# EAGLE library part CD74HC4051NSR (library Cominer-CD74HC4051NSR)
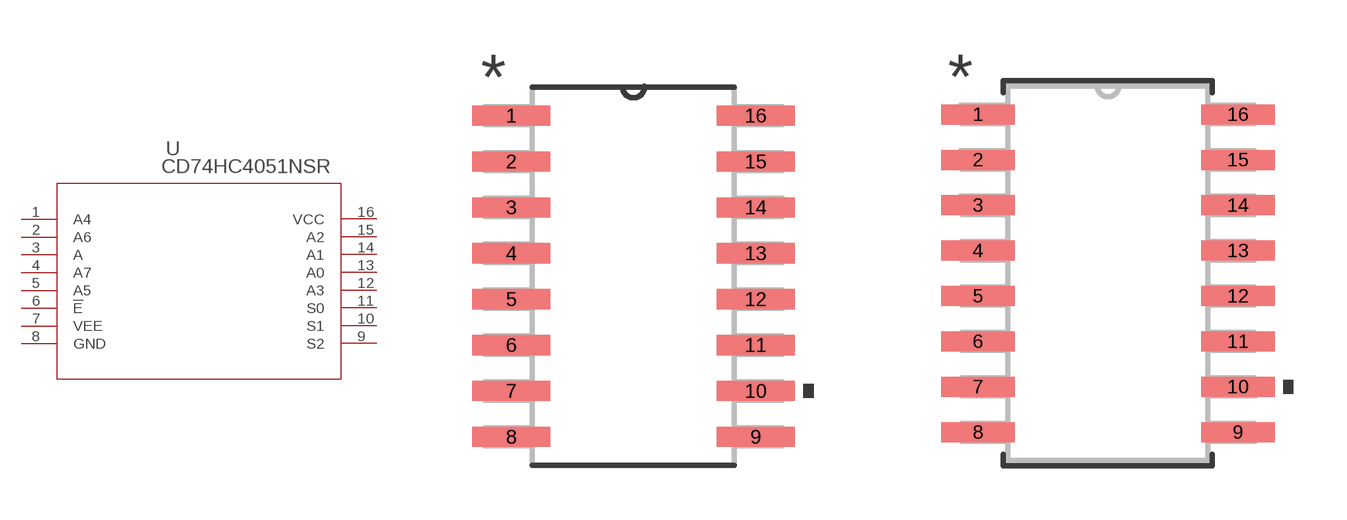
[diagram p0: symbol with the pads of NS16; footprints NS16, NS16-M]

Designator prefix U

## CD74HC4051NSR (COPYRIGHT: Copyright (C) 2022 Ultra Librarian. All rights reserved.; DIGI-KEY_PART_NUMBER_1: 296-28697-1-ND; DIGI-KEY_PART_NUMBER_2: 296-28697-2-ND; DIGI-KEY_PART_NUMBER_3: 296-28697-6-ND; DIGI-KEY_PART_NUMBER_4: 2156-CD74HC4051NSR-ND; MANUFACTURER_PART_NUMBER: CD74HC4051NSR; MFR_NAME: Texas Instruments)  [NS16]
1  A4
2  A6
3  A
4  A7
5  A5
6  !E  in
7  VEE  pwr
8  GND  pwr
9  S2
10  S1
11  S0
12  A3
13  A0
14  A1
15  A2
16  VCC  pwr

## CD74HC4051NSRNS16-M (COPYRIGHT: Copyright (C) 2022 Ultra Librarian. All rights reserved.; DIGI-KEY_PART_NUMBER_1: 296-28697-1-ND; DIGI-KEY_PART_NUMBER_2: 296-28697-2-ND; DIGI-KEY_PART_NUMBER_3: 296-28697-6-ND; DIGI-KEY_PART_NUMBER_4: 2156-CD74HC4051NSR-ND; MANUFACTURER_PART_NUMBER: CD74HC4051NSR; MFR_NAME: Texas Instruments)  [NS16-M]
Pads as for NS16

## CD74HC4051NSRNS16-L (COPYRIGHT: Copyright (C) 2022 Ultra Librarian. All rights reserved.; DIGI-KEY_PART_NUMBER_1: 296-28697-1-ND; DIGI-KEY_PART_NUMBER_2: 296-28697-2-ND; DIGI-KEY_PART_NUMBER_3: 296-28697-6-ND; DIGI-KEY_PART_NUMBER_4: 2156-CD74HC4051NSR-ND; MANUFACTURER_PART_NUMBER: CD74HC4051NSR; MFR_NAME: Texas Instruments)  [NS16-L]
Pads as for NS16

## Footprint NS16 (pad centres in mm)
smd 2.159 x 0.559: 1 -3.378,4.445; 2 -3.378,3.175; 3 -3.378,1.905; 4 -3.378,0.635; 5 -3.378,-0.635; 6 -3.378,-1.905; 7 -3.378,-3.175; 8 -3.378,-4.445; 9 3.378,-4.445; 10 3.378,-3.175; 11 3.378,-1.905; 12 3.378,-0.635; 13 3.378,0.635; 14 3.378,1.905; 15 3.378,3.175; 16 3.378,4.445

## Footprint NS16-M (pad centres in mm)
smd 2.057 x 0.559: 1 -3.632,4.445; 2 -3.632,3.175; 3 -3.632,1.905; 4 -3.632,0.635; 5 -3.632,-0.635; 6 -3.632,-1.905; 7 -3.632,-3.175; 8 -3.632,-4.445; 9 3.632,-4.445; 10 3.632,-3.175; 11 3.632,-1.905; 12 3.632,-0.635; 13 3.632,0.635; 14 3.632,1.905; 15 3.632,3.175; 16 3.632,4.445

## Footprint NS16-L (pad centres in mm)
smd 1.448 x 0.508: 1 -3.531,4.445; 2 -3.531,3.175; 3 -3.531,1.905; 4 -3.531,0.635; 5 -3.531,-0.635; 6 -3.531,-1.905; 7 -3.531,-3.175; 8 -3.531,-4.445; 9 3.531,-4.445; 10 3.531,-3.175; 11 3.531,-1.905; 12 3.531,-0.635; 13 3.531,0.635; 14 3.531,1.905; 15 3.531,3.175; 16 3.531,4.445